# Altium schematic symbol library Resistors.SchLib: 10 symbols
Pins are listed as number, name and electrical type; pins without a type are passive.

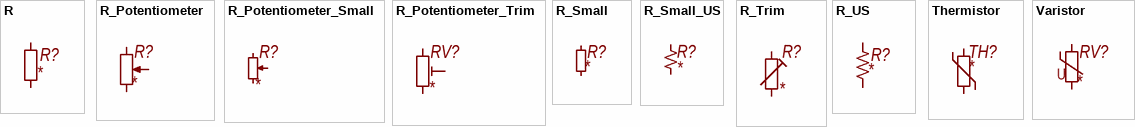
[diagram p0: symbols R to Varistor]

## R
designator R?
Resistor; Value: *
footprint RES0603
footprint RES0805
footprint RES1206
footprint RES-0.125
footprint RES-0.25-11mm
pins: 1, 2

## R_Potentiometer
designator R?
Potentiometer; Value: *
footprint POT16148-HOR
footprint RK09D117000B
pins: 1, 2, 3

## R_Potentiometer_Small
designator R?
Potentiometer; Value: *
pins: 1, 2, 3

## R_Potentiometer_Trim
designator RV?
Trim-potentiometer; Value: *
footprint TRIM_3306F-1-105
footprint TRIM_3362P-1-102LF
footprint TRIM_PV36W253C01B00
pins: 1, 2, 3

## R_Small
designator R?
Resistor, small symbol; Value: *
footprint RES0603
footprint RES0805
footprint RES1206
footprint RES-0.125
footprint RES-0.25-11mm
pins: 1, 2

## R_Small_US
designator R?
Resistor, small US symbol; Value: *
footprint RES0603
footprint RES0805
footprint RES1206
footprint RES-0.125
footprint RES-0.25-11mm
pins: 1, 2

## R_Trim
designator R?
Trimmable resistor (preset resistor); Value: *
pins: 1, 2

## R_US
designator R?
Resistor, US symbol; Value: *
footprint RES0603
footprint RES0805
footprint RES1206
footprint RES-0.125
footprint RES-0.25-11mm
pins: 1, 2

## Thermistor
designator TH?
Temperature dependent resistor; Value: *
pins: 1, 2

## Varistor
designator RV?
Voltage dependent resistor; Value: *
pins: 1, 2
text: U